# Altium footprint library Diode.PcbLib: 53 footprints (part 3 of 4)
Each footprint in its own frame and in the unit in brackets; x right, y up, seen from the top. Pads: shape width x height; smd on the part's side, far side on the other; paste and mask are expansions set on the pad; w line width, h text height; cw(c..) or ccw(c..) is an arc to the next point about the centre after c.
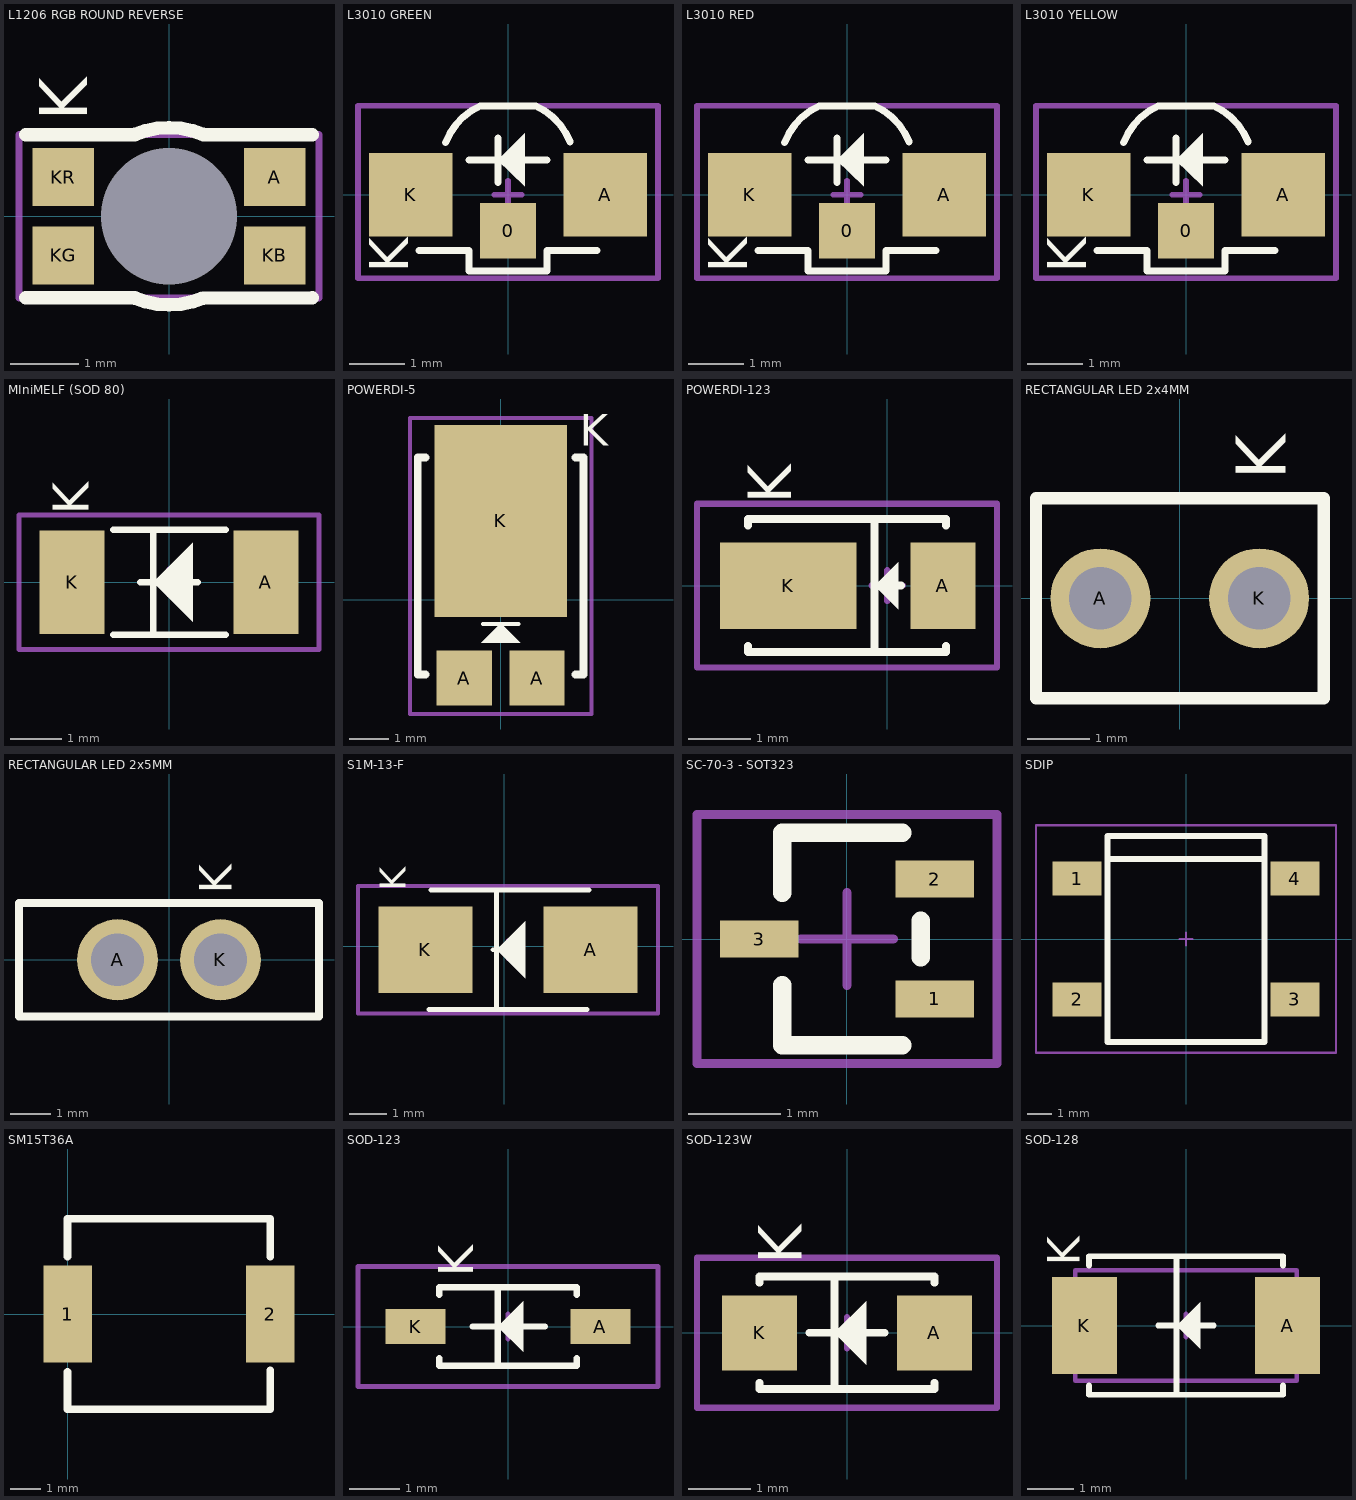
[diagram p2: the footprints below, top view; thin cyan lines are the x and y axes]

## L1206 RGB ROUND REVERSE [mm]
pads (5):
  rrect100% 0x0 hole 2 unplated: 0(0,0)
  rect 0.9x0.85 smd paste+0: A(1.55,0.575) KB(1.55,-0.575) KG(-1.55,-0.575) KR(-1.55,0.575)
Top Overlay:
  lines w0.2: -2.1,-1.197 -0.5,-1.197 ; -2.1,1.197 -0.5,1.197 ; -0.5,-1.2 ccw(c0,0) 0.5,-1.2 2.1,-1.197 ; -0.5,1.2 cw(c0,0) 0.5,1.2 2.1,1.197
  text "K" at -1.2,1.4 h0.7
Mechanical 15:
  lines w0.1: -0.25,0 0.25,0 ; 0,-0.25 0,0.25 ; -2.2,-1.2 -2.2,1.2 2.2,1.2 2.2,-1.2 -2.2,-1.2
3D body "STEP-WL-SFRW-1205-RECTANGULAR-rev1.stp": height 0.3, standoff -0.5, extent -1.6,-0.6 1.6,0.6

## L3010 GREEN [mm]
pads (3):
  rect 1x1 smd paste+0: 0(0,-0.65)
  rect 1.5x1.5 smd paste+0: A(1.75,0) K(-1.75,0)
Top Overlay:
  region: -0.181,0.625 0.3,1.106 0.3,0.158
  lines w0.127: -1.6,-1 -0.7,-1 -0.7,-1.375 0.7,-1.375 0.7,-1 1.6,-1 ; -1.123,0.94 cw(c-0.003,0.508) -0.5,1.6 0.5,1.6 cw(c0.003,0.508) 1.12,0.948 ; -0.7,0.625 0.7,0.625 ; -0.181,0.225 -0.181,1.025
  text "K" at -1.8,-1.4 h0.7
Mechanical 15:
  lines w0.1: -0.25,0 0.25,0 ; 0,-0.25 0,0.25 ; -2.7,-1.5 2.7,-1.5 2.7,1.6 -2.7,1.6 -2.7,-1.5
3D body "SW3dPS-APA3010GCCK_GREEN.STEP": height 1, standoff 0, extent -1.5,-0.5 1.5,1.5

## L3010 RED [mm]
pads (3):
  rect 1x1 smd paste+0: 0(0,-0.65)
  rect 1.5x1.5 smd paste+0: A(1.75,0) K(-1.75,0)
Top Overlay:
  region: -0.181,0.625 0.3,1.106 0.3,0.158
  lines w0.127: -1.6,-1 -0.7,-1 -0.7,-1.375 0.7,-1.375 0.7,-1 1.6,-1 ; -1.123,0.94 cw(c-0.003,0.508) -0.5,1.6 0.5,1.6 cw(c0.003,0.508) 1.12,0.948 ; -0.7,0.625 0.7,0.625 ; -0.181,0.225 -0.181,1.025
  text "K" at -1.8,-1.4 h0.7
Mechanical 15:
  lines w0.1: -0.25,0 0.25,0 ; 0,-0.25 0,0.25 ; -2.7,-1.5 2.7,-1.5 2.7,1.6 -2.7,1.6 -2.7,-1.5
3D body "SW3dPS-APA3010GCCK_RED.STEP": height 1, standoff 0, extent -1.5,-0.5 1.5,1.5

## L3010 YELLOW [mm]
pads (3):
  rect 1x1 smd paste+0: 0(0,-0.65)
  rect 1.5x1.5 smd paste+0: A(1.75,0) K(-1.75,0)
Top Overlay:
  region: -0.181,0.625 0.3,1.106 0.3,0.158
  lines w0.127: -1.6,-1 -0.7,-1 -0.7,-1.375 0.7,-1.375 0.7,-1 1.6,-1 ; -1.123,0.94 cw(c-0.003,0.508) -0.5,1.6 0.5,1.6 cw(c0.003,0.508) 1.12,0.948 ; -0.7,0.625 0.7,0.625 ; -0.181,0.225 -0.181,1.025
  text "K" at -1.8,-1.4 h0.7
Mechanical 15:
  lines w0.1: -0.25,0 0.25,0 ; 0,-0.25 0,0.25 ; -2.7,-1.5 2.7,-1.5 2.7,1.6 -2.7,1.6 -2.7,-1.5
3D body "SW3dPS-APA3010GCCK_YELLOW.STEP": height 1, standoff 0, extent -1.5,-0.5 1.5,1.5

## MIniMELF (SOD 80) [mm] "JEDEC DO 213 AA"
height 1.5
pads (2):
  rect 1.25x2 smd paste+0: A(1.875,0) K(-1.875,0)
Top Overlay:
  region: -0.305,0 0.457,0.762 0.457,-0.762
  lines w0.127: -1.078,-1.016 1.092,-1.016 ; -1.078,1.016 1.092,1.016 ; -0.559,0 0.559,0 ; -0.305,-1.016 -0.305,1.016
  text "K" at -1.55,1.3 h0.7
Mechanical 15:
  lines w0.1: -0.25,0 0.25,0 ; 0,-0.25 0,0.25 ; -2.9,-1.3 -2.9,1.3 2.9,1.3 2.9,-1.3 -2.9,-1.3
3D body "Diode Mini MELF.step": height 1.39, standoff -0.01, extent -1.75,-0.7 1.75,0.7

## POWERDI-5 [mm]
height 1.1
pads (3):
  rect 1.4x1.39 smd paste+0: A(-0.92,-1.991) A(0.92,-1.991)
  rect 3.36x4.86 smd paste+0: K(0,1.991)
Top Overlay:
  region: 0,-0.603 0.497,-1.1 -0.497,-1.1
  lines w0.1: -0.45,-0.625 0.45,-0.625
  lines w0.2: -1.9,-1.9 -2.1,-1.9 -2.1,3.6 -1.9,3.6 ; 1.9,-1.9 2.1,-1.9 2.1,3.6 1.9,3.6
  text "K" at 2,3.9 h0.8
Mechanical 15:
  lines w0.1: -0.25,0 0.25,0 ; 0,-0.25 0,0.25 ; -2.3,-2.9 2.3,-2.9 2.3,4.6 -2.3,4.6 -2.3,-2.9
3D body "User Library-PowerDI-5.STEP": height 1.17, standoff 0.02, extent -2.025,-2.425 2.025,4.175

## POWERDI-123 [mm]
height 1
pads (2):
  rect 1.05x1.4 smd paste+0: A(0.9,0)
  rect 2.2x1.4 smd paste+0: K(-1.6,0)
Top Overlay:
  region: -0.203,0 0.175,0.378 0.175,-0.378
  lines w0.127: -2.25,-0.975 -2.25,-1.075 0.95,-1.075 0.95,-0.975 ; -2.25,0.975 -2.25,1.075 0.95,1.075 0.95,0.975 ; -0.203,-1.075 -0.203,1.075 ; -0.2,0 0.225,0
  text "K" at -1.55,1.325 h0.7
Mechanical 15:
  lines w0.1: -0.25,0 0.25,0 ; 0,-0.25 0,0.25 ; -3.075,-1.325 -3.075,1.325 1.775,1.325 1.775,-1.325 -3.075,-1.325
3D body "User Library-POWERDI-123.STEP": height 1, standoff 0, extent -2.6,-0.964 1.3,0.966

## RECTANGULAR LED 2x4MM [mm]
pads (2):
  round 1.6 hole 1: A(-1.27,0) K(1.27,0)
Top Overlay:
  lines w0.2: -2.3,-1.6 2.3,-1.6 2.3,1.6 -2.3,1.6 -2.3,-1.6
  text "K" at 1.7,1.9 h0.8
3D body "Rectangular LED GREEN 2x4mm.STEP": height 5.2, standoff -3.5, extent -2,-1.4 2,1.4

## RECTANGULAR LED 2x5MM [mm]
pads (2):
  round 2 hole 1.3: A(-1.27,0) K(1.27,0)
Top Overlay:
  lines w0.2: -3.7,-1.4 3.7,-1.4 3.7,1.4 -3.7,1.4 -3.7,-1.4
  text "K" at 1.55,1.625 h0.8
3D body "User Library-rectangular led.STEP": height 8, standoff -4, extent -3.555,-1.27 3.555,1.27

## S1M-13-F [mm] "DIODE GEN PURP 1KV 1A SMA"
height 2.5
pads (2):
  rect 2.5x2.3 smd: A(2.3,-0.1) K(-2.1,-0.1)
Top Overlay:
  region: -0.205,-0.1 0.557,0.662 0.557,-0.862
  lines w0.127: -2.008,-1.695 2.208,-1.695 ; -1.958,1.495 2.258,1.495 ; -0.3,-0.1 0.4,-0.1 ; -0.205,-1.675 -0.205,1.475
  text "K" at -2.625,1.475 h0.7
Mechanical 15:
  lines w0.1: -0.15,-0.1 0.35,-0.1 ; 0.1,-0.35 0.1,0.15 ; -3.9,-1.8 -3.9,1.6 4.1,1.6 4.1,-1.8 -3.9,-1.8
3D body "2222222222222222222222.STEP": height 2.27, standoff -0.01, extent -2.643,-1.497 2.843,1.297

## SC-70-3 - SOT323 [mm]
pads (3):
  rect 0.85x0.4 smd: 1(0.95,-0.65) 2(0.95,0.65) 3(-0.95,0)
Top Overlay:
  lines w0.2: -0.7,-0.5 -0.7,-1.15 0.6,-1.15 ; -0.7,0.5 -0.7,1.15 0.6,1.15 ; 0.8,-0.2 0.8,0.2
Mechanical 15:
  lines w0.1: -0.5,0 0.5,0 ; 0,-0.5 0,0.5 ; -1.625,-1.35 1.625,-1.35 1.625,1.35 -1.625,1.35 -1.625,-1.35
3D body "User Library-sc70-3.step": height 1, standoff 0, extent -1.15,-1.05 1.15,1.05

## SDIP [mm]
pads (4):
  rect 2.032x1.422 smd: 1(-4.5,2.5) 2(-4.5,-2.5) 3(4.5,-2.5) 4(4.5,2.5)
Top Overlay:
  lines w0.254: -3.238,3.302 3.238,3.302 ; -3.238,-4.255 3.238,-4.255 3.238,4.255 -3.238,4.255 -3.238,-4.255
Mechanical 15:
  lines w0.1: -0.25,0 0.25,0 ; 0,-0.25 0,0.25 ; -6.2,-4.7 6.2,-4.7 6.2,4.7 -6.2,4.7 -6.2,-4.7
3D body "SDIP.step": height 3.63, standoff 0, extent -5,-4.255 5,4.245

## SM15T36A [mm]
pads (2):
  rect 1.6x3.2 smd paste-25.4 mask-25.4: 1(0,0) 2(6.65,0)
Top Overlay:
  lines w0.254: -0.004,-1.904 -0.004,-3.125 6.65,-3.125 6.65,-1.851 ; -0.004,1.891 -0.004,3.125 6.65,3.125 6.65,1.883
Top Paste:
  region: 0.889,1.651 -0.889,1.651 -0.889,-1.651 0.889,-1.651
  region: 7.493,1.651 5.803,1.651 5.803,-1.651 7.493,-1.651
Top Solder:
  region: 1.016,1.778 -1.016,1.778 -1.016,-1.778 1.016,-1.778
  region: 7.62,1.778 5.674,1.778 5.674,-1.778 7.62,-1.778
3D body "User Library-DO-214AB(SMC).STEP": height 2.62, standoff -0.02, extent -0.745,-3.181 7.383,3.119

## SOD-123 [mm]
pads (2):
  rect 1.2x0.7 smd paste+0: A(1.85,0) K(-1.85,0)
Top Overlay:
  region: -0.203,0 0.305,0.508 0.305,-0.508
  lines w0.127: -1.372,-0.632 -1.372,-0.787 1.372,-0.787 1.372,-0.632 ; -1.372,0.632 -1.372,0.787 1.372,0.787 1.372,0.632 ; -0.711,0 0.737,0 ; -0.203,-0.787 -0.203,0.787
  text "K" at -0.7,1 h0.7
Mechanical 15:
  lines w0.1: -0.25,0 0.25,0 ; 0,-0.25 0,0.25 ; -3,-1.2 -3,1.2 3,1.2 3,-1.2 -3,-1.2
3D body "SOD-123.step": height 1.44, standoff -0.01, extent -1.925,-0.85 1.925,0.85

## SOD-123W [mm]
pads (2):
  rect 1.2x1.2 smd paste+0: A(1.4,0) K(-1.4,0)
Top Overlay:
  region: -0.203,0 0.305,0.508 0.305,-0.508
  lines w0.127: -1.4,-0.8 -1.4,-0.9 1.372,-0.9 ; -1.4,0.8 -1.4,0.9 ; -1.372,0.9 1.372,0.9 ; -0.6,0 0.6,0 ; -0.203,-0.9 -0.203,0.9 ; 1.4,-0.9 1.4,-0.8 ; 1.4,0.8 1.4,0.9
  text "K" at -0.725,1.1 h0.7
Mechanical 15:
  lines w0.1: -0.25,0 0.25,0 ; 0,-0.25 0,0.25 ; -2.4,-1.2 -2.4,1.2 2.4,1.2 2.4,-1.2 -2.4,-1.2
3D body "SOD-123.step": height 1.44, standoff -0.01, extent -1.925,-0.85 1.925,0.85

## SOD-128 [mm]
pads (2):
  rect 1.4x2.1 smd paste+0: A(2.2,0) K(-2.2,0)
Top Overlay:
  region: -0.203,0 0.305,0.508 0.305,-0.508
  lines w0.127: -2.1,-1.3 -2.1,-1.5 2.1,-1.5 2.1,-1.3 ; -2.1,1.3 -2.1,1.5 2.1,1.5 2.1,1.3 ; -0.6,0 0.6,0 ; -0.203,-1.5 -0.203,1.5
  text "K" at -2.3,1.3 h0.7
Mechanical 15:
  lines w0.1: -0.25,0 0.25,0 ; 0,-0.25 0,0.25 ; -2.4,-1.2 2.4,-1.2 2.4,1.2 -2.4,1.2 -2.4,-1.2
3D body "User Library-SOD128.step": height 1.1, standoff -0.01, extent -2.5,-1.35 2.5,1.35